# Altium schematic symbol library NI6212.SchLib: 1 symbol
Pins are listed as number, name and electrical type; pins without a type are passive.

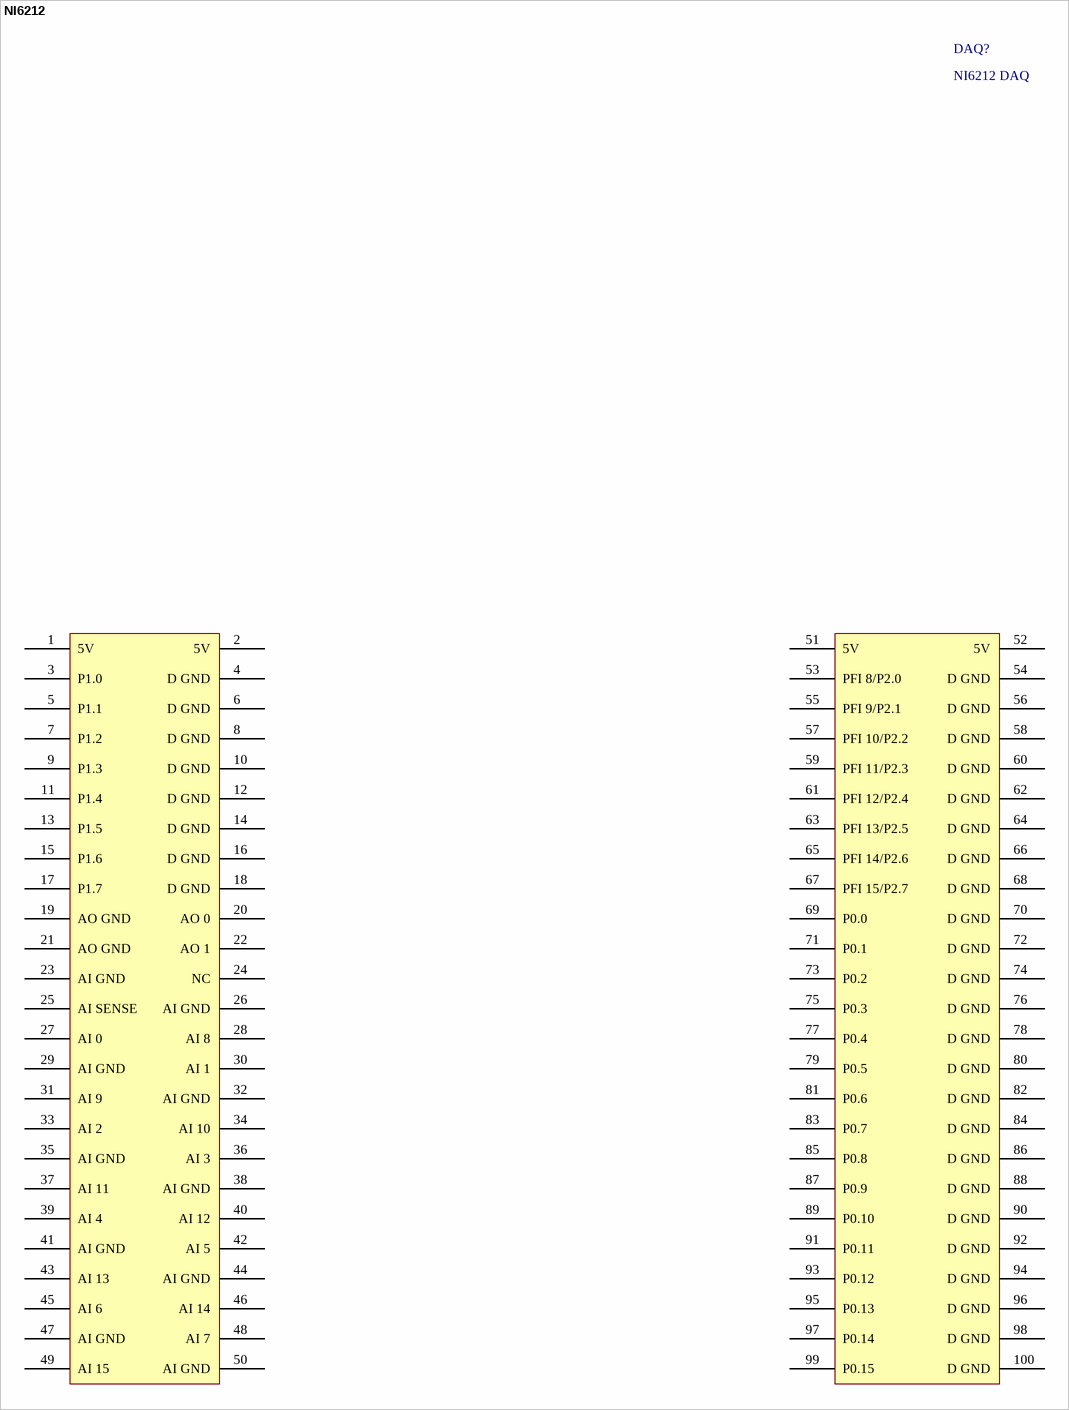
[diagram p0: symbol NI6212]

## NI6212
designator DAQ?, comment NI6212 DAQ
DAQ Unit; Published: 8-Jun-2000; Publisher: National Instruments
footprint NIDAQ6212
pins: 1 5V, 2 5V, 3 P1.0, 4 D GND, 5 P1.1, 6 D GND, 7 P1.2, 8 D GND, 9 P1.3, 10 D GND, 11 P1.4, 12 D GND, 13 P1.5, 14 D GND, 15 P1.6, 16 D GND, 17 P1.7, 18 D GND, 19 AO GND, 20 AO 0, 21 AO GND, 22 AO 1, 23 AI GND, 24 NC, 25 AI SENSE, 26 AI GND, 27 AI 0, 28 AI 8, 29 AI GND, 30 AI 1, 31 AI 9, 32 AI GND, 33 AI 2, 34 AI 10, 35 AI GND, 36 AI 3, 37 AI 11, 38 AI GND, 39 AI 4, 40 AI 12, 41 AI GND, 42 AI 5, 43 AI 13, 44 AI GND, 45 AI 6, 46 AI 14, 47 AI GND, 48 AI 7, 49 AI 15, 50 AI GND, 51 5V, 52 5V, 53 PFI 8/P2.0, 54 D GND, 55 PFI 9/P2.1, 56 D GND, 57 PFI 10/P2.2, 58 D GND, 59 PFI 11/P2.3, 60 D GND, 61 PFI 12/P2.4, 62 D GND, 63 PFI 13/P2.5, 64 D GND, 65 PFI 14/P2.6, 66 D GND, 67 PFI 15/P2.7, 68 D GND, 69 P0.0, 70 D GND, 71 P0.1, 72 D GND, 73 P0.2, 74 D GND, 75 P0.3, 76 D GND, 77 P0.4, 78 D GND, 79 P0.5, 80 D GND, 81 P0.6, 82 D GND, 83 P0.7, 84 D GND, 85 P0.8, 86 D GND, 87 P0.9, 88 D GND, 89 P0.10, 90 D GND, 91 P0.11, 92 D GND, 93 P0.12, 94 D GND, 95 P0.13, 96 D GND, 97 P0.14, 98 D GND, 99 P0.15, 100 D GND